# Altium footprint library PcbLib4.PcbLib: 1 footprints
Each footprint in its own frame and in the unit in brackets; x right, y up, seen from the top. Pads: shape width x height; smd on the part's side, far side on the other; paste and mask are expansions set on the pad; w line width, h text height; cw(c..) or ccw(c..) is an arc to the next point about the centre after c.
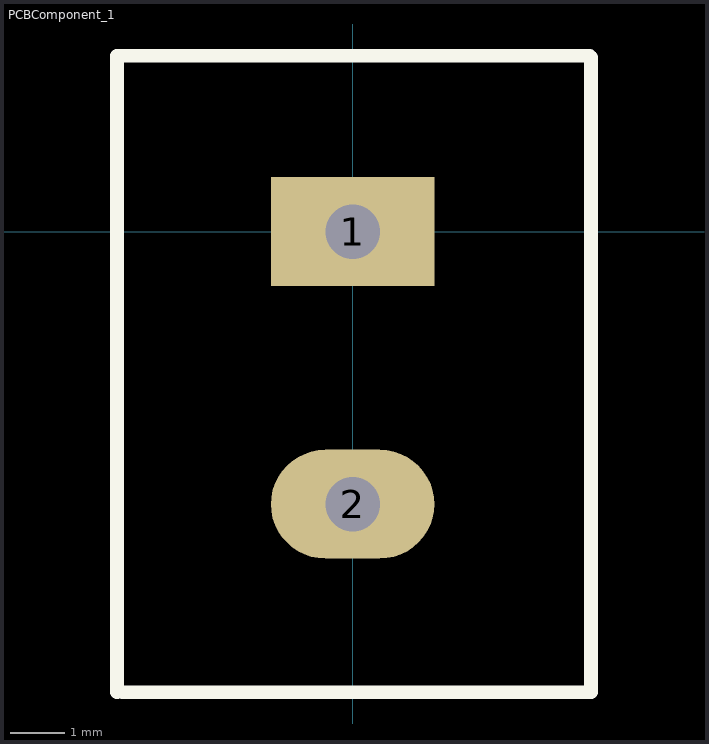
[diagram p0: the footprint, top view; thin cyan lines are the x and y axes]

## PCBComponent_1 [mm]
pads (2):
  rect 3x2 hole 1: 1(0,0)
  oval 3x2 hole 1: 2(0,-5)
Top Overlay:
  lines w0.254: -4.325,-8.45 -4.325,-8.35 -4.325,-7.975 -4.325,3.225 -1.125,3.225 ; -1.5,3.225 3.725,3.225 4.35,3.225 ; 3.9,-8.45 4.375,-8.45 4.375,-7.975 4.375,2.575 4.375,3.2 ; 3.9,-8.45 -4.225,-8.45 -3.55,-8.45 3.9,-8.45 ; 4.35,3.225 4.375,3.2 ; 4.35,3.225 4.375,3.2